# EAGLE library part STM32F030F4PX (library stm32f030f4px)
The STM32F030x4/x6/x8/xC microcontrollers incorporate the high-performance Arm® Cortex®-M0 32-bit RISC core operating at a 48 MHz frequency, high-speed embedded memories (up to 256 Kbytes of Flash memory and up to 32 Kbytes of SRAM), and an extensive range of enhanced peripherals and I/Os. All devices offer standard communication interfaces (up to two I2Cs, up to two SPIs and up to six USARTs), one 12-bit ADC, seven general-purpose 16-bit timers and an advanced-control PWM timer. The STM32F030x4/x6/x8/xC microcontrollers operate in the -40 to +85 °C temperature range from a 2.4 to 3.6V power supply. A comprehensive set of power-saving modes allows the design of low-power applications. The STM32F030x4/x6/x8/xC microcontrollers include devices in four different packages ranging from 20 pins to 64 pins. Depending on the device chosen, different sets of peripherals are included. The description below provides an overview of the complete range of STM32F030x4/x6/x8/xC peripherals proposed. These features make the STM32F030x4/x6/x8/xC microcontrollers suitable for a wide range of applications such as application control and user interfaces, handheld equipment, A/V receivers and digital TV, PC peripherals, gaming and GPS platforms, industrial applications, PLCs, inverters, printers, scanners, alarm systems, video intercoms, and HVACs.
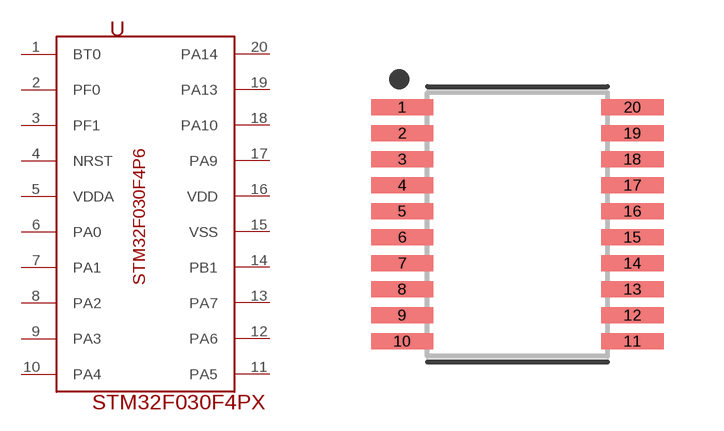
[diagram p0: symbol with the pads of SOP65P640X120-20N; footprint SOP65P640X120-20N]

Designator prefix -

## STM32F030F4PX  [SOP65P640X120-20N]
1  BT0
2  PF0
3  PF1
4  NRST
5  VDDA
6  PA0
7  PA1
8  PA2
9  PA3
10  PA4
11  PA5
12  PA6
13  PA7
14  PB1
15  VSS
16  VDD
17  PA9
18  PA10
19  PA13
20  PA14

## Footprint SOP65P640X120-20N (pad centres in mm)
20-SOP, 0.65 mm pitch, 6.40 mm span, 6.50 X 4.40 X 1.20 mm body 20-pin SOP package with 0.65 mm pitch, 6.40 mm span with body size 6.50 X 4.40 X 1.20 mm
smd 1.559 x 0.407: 1 -2.878,2.925; 2 -2.878,2.275; 3 -2.878,1.625; 4 -2.878,0.975; 5 -2.878,0.325; 6 -2.878,-0.325; 7 -2.878,-0.975; 8 -2.878,-1.625; 9 -2.878,-2.275; 10 -2.878,-2.925; 11 2.878,-2.925; 12 2.878,-2.275; 13 2.878,-1.625; 14 2.878,-0.975; 15 2.878,-0.325; 16 2.878,0.325; 17 2.878,0.975; 18 2.878,1.625; 19 2.878,2.275; 20 2.878,2.925